# Altium integrated library USB-A1HSW6.IntLib: 1 symbol
Pins are listed as number, name and electrical type; pins without a type are passive.

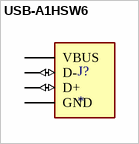
[diagram p0: symbol USB-A1HSW6]

## USB-A1HSW6
designator J?
MF: {'manufacturer': u'On Shore Technology Inc.'}; MP: USB-A1HSW6; Package: None; Price: None; Value: *; Availability: Unavailable
footprint OST_USB-A1HSW6
pins: 1 VBUS (power), 2 D- (io), 3 D+ (io), 4 GND (power)